# Altium footprint library TSSOP28.PcbLib: 1 footprints
Each footprint in its own frame and in the unit in brackets; x right, y up, seen from the top. Pads: shape width x height; smd on the part's side, far side on the other; paste and mask are expansions set on the pad; w line width, h text height; cw(c..) or ccw(c..) is an arc to the next point about the centre after c.
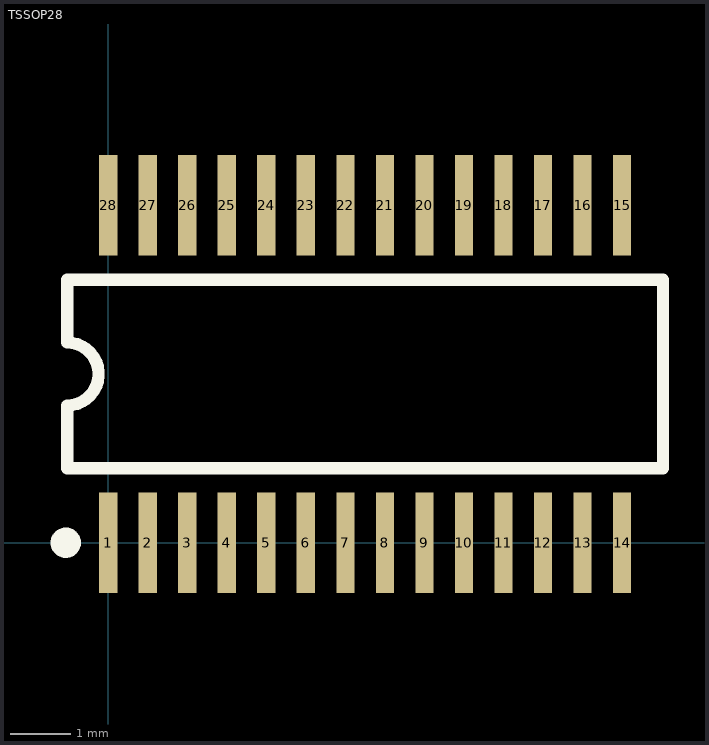
[diagram p0: the footprint, top view; thin cyan lines are the x and y axes]

## TSSOP28 [mm]
pads (28):
  rect 0.3x1.65 smd: 1(0,0) 2(0.65,0) 3(1.3,0) 4(1.95,0) 5(2.6,0) 6(3.25,0) 7(3.9,0) 8(4.55,0) 9(5.2,0) 10(5.85,0) 11(6.5,0) 12(7.15,0) 13(7.8,0) 14(8.45,0) 15(8.45,5.55) 16(7.8,5.55) 17(7.15,5.55) 18(6.5,5.55) 19(5.85,5.55) 20(5.2,5.55) 21(4.55,5.55) 22(3.9,5.55) 23(3.25,5.55) 24(2.6,5.55) 25(1.95,5.55) 26(1.3,5.55) 27(0.65,5.55) 28(0,5.55)
Top Overlay:
  circle w0.25: c-0.7,0 r0.125
  lines w0.2: -0.675,2.258 ccw(c-0.675,2.775) -0.675,3.292 ; -0.675,2.258 -0.675,1.225 9.125,1.225 9.125,4.325 -0.675,4.325 -0.675,3.292
3D body: height 0.97, standoff -0.02, extent -0.625,-0.425 9.075,5.975